# EAGLE library part SD_CARD_V (library _mtvl.connectors)
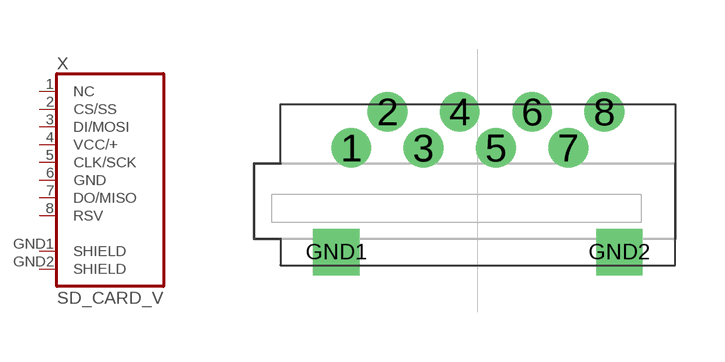
[diagram p18: symbol with the pads of VERT_MICROSD_REV2; footprint VERT_MICROSD_REV2]

Designator prefix X

## SD_CARD_V  [VERT_MICROSD_REV2]
1  NC
2  CS/SS
3  DI/MOSI
4  VCC/+
5  CLK/SCK
6  GND
7  DO/MISO
8  RSV
GND1  SHIELD
GND2  SHIELD

## Footprint VERT_MICROSD_REV2 (pad centres in mm)
drill 0.7: 1 -3.85,0; 2 -2.75,1.1; 3 -1.65,0; 4 -0.55,1.1; 5 0.55,0; 6 1.65,1.1; 7 2.75,0; 8 3.85,1.1
drill 0.9 square: GND1 -4.3,-3.17; GND2 4.3,-3.17